# EAGLE library part LCD (library ventilator)
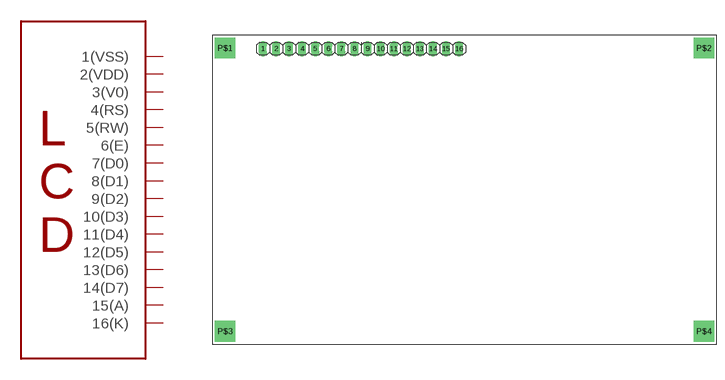
[diagram p0: symbol with the pads of 1X16; footprint 1X16]

Designator prefix -

## LCD  [1X16]
1  1(VSS)
2  2(VDD)
3  3(V0)
4  4(RS)
5  5(RW)
6  6(E)
7  7(D0)
8  8(D1)
9  9(D2)
10  10(D3)
11  11(D4)
12  12(D5)
13  13(D6)
14  14(D7)
15  15(A)
16  16(K)

## Footprint 1X16 (pad centres in mm)
PIN HEADER
drill 1.016 long: 1 -39.14,26.1; 2 -36.6,26.1; 3 -34.06,26.1; 4 -31.52,26.1; 5 -28.98,26.1; 6 -26.44,26.1; 7 -23.9,26.1; 8 -21.36,26.1; 9 -18.82,26.1; 10 -16.28,26.1; 11 -13.74,26.1; 12 -11.2,26.1; 13 -8.66,26.1; 14 -6.12,26.1; 15 -3.58,26.1; 16 -1.04,26.1
drill 3 square: P$1 -46.5,26.23; P$2 46.5,26.23; P$3 -46.5,-28.77; P$4 46.5,-28.77